# EAGLE library part SN74LVC2G14 (library HelaTronix - IC Special Functions)
Dual Schmitt-Trigger Inverter
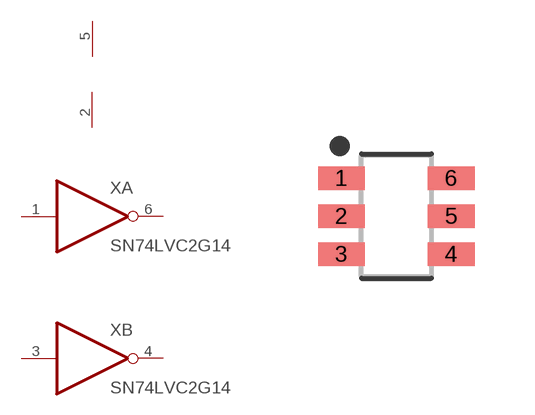
[diagram p7: symbol with the pads of SOT23-6-95P300X145-6N; footprint SOT23-6-95P300X145-6N]

Designator prefix X; gates A=INVERTER_BUFFER B=INVERTER_BUFFER PWR=PWR+-

## SN74LVC2G14 (LCSC#: C12401; LCSC_LINK: https://lcsc.com/product-detail/Inverters_Texas-Instruments-SN74LVC2G14DBVR_C12401.html; MANUFACTURER: Texas Instruments; MFR#: SN74LVC2G14DBVR)  [SOT23-6-95P300X145-6N]
1  A:I  in
2  PWR:V-  pwr
3  B:I  in
4  B:O  out
5  PWR:V+  pwr
6  A:O  out

## Footprint SOT23-6-95P300X145-6N (pad centres in mm)
6-SOT23, 0.95 mm pitch, 3.00 mm span, 2.90 X 1.60 X 1.45 mm body 6-pin SOT23 package with 0.95 mm pitch, 3.00 mm span with body size 2.90 X 1.60 X 1.45 mm
smd 1.172 x 0.584: 1 -1.372,0.95; 2 -1.372,0; 3 -1.372,-0.95; 4 1.372,-0.95; 5 1.372,0; 6 1.372,0.95